# Altium schematic symbol library WE-OLEFD.SchLib: 24 symbols
Pins are listed as number, name and electrical type; pins without a type are passive.

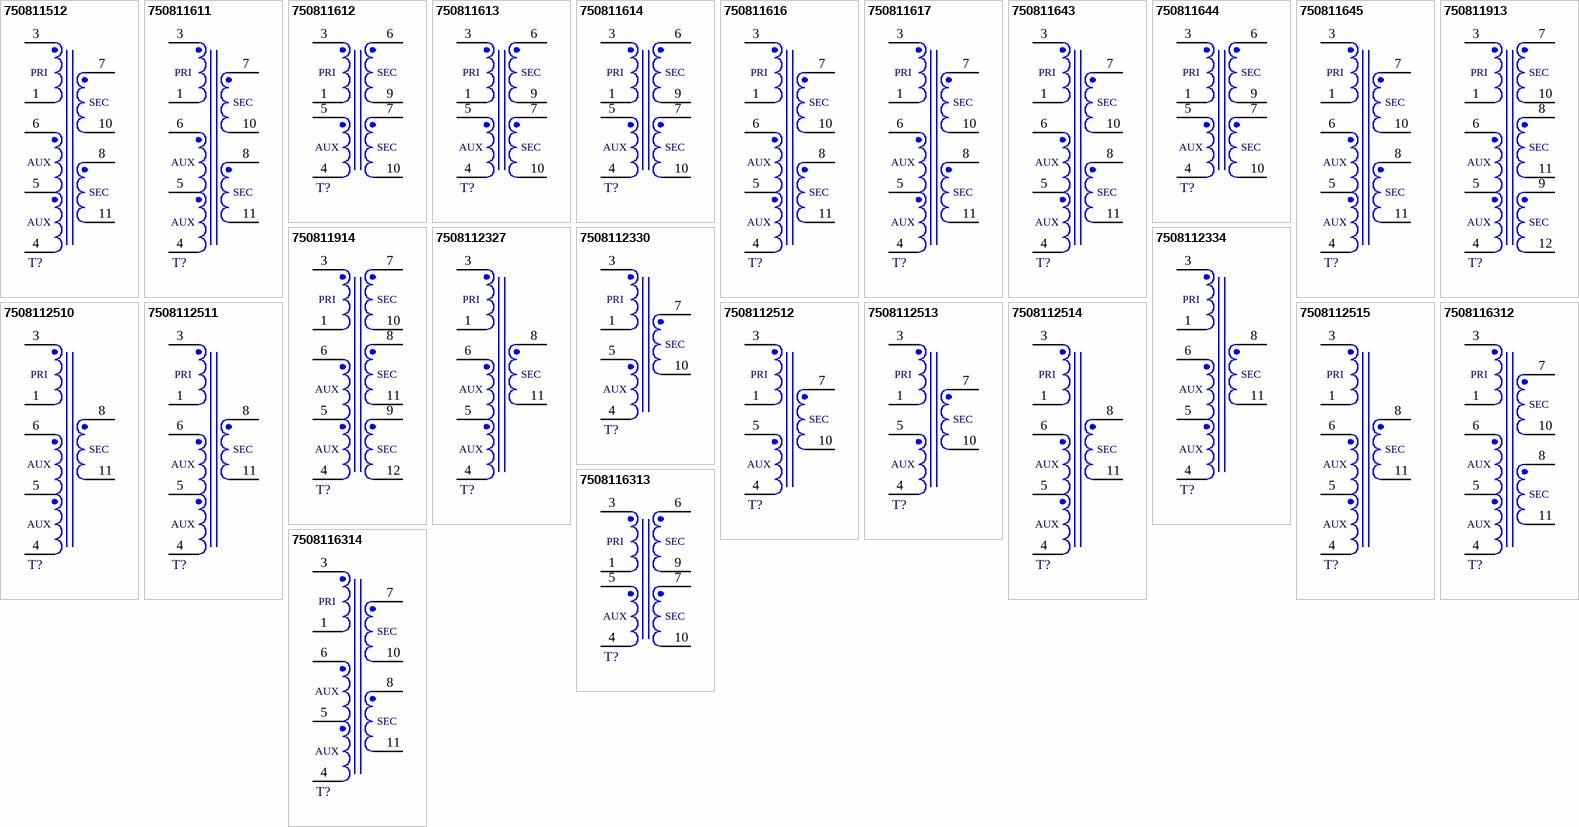
[diagram p0: symbols 750811512 to 7508116314]

## 750811512
designator T?, comment Ui = 85 - 265V, Uo1 = 5V / 1.575A, Uo2 = 5V / 1.575A  (value not drawn)
WE-OLEFD EFD-Style Offline Flyback Transformer, EFD25 THT, Ui = 85 - 265V, Uo1 = 5V / 1.575A, Uo2 = 5V / 1.575A; Manufacturer Part Number: 750811512; Manufacturer: Wurth Elektronik; Auxiliary Voltage: 20V; Inductance: 770uH; Input Voltage: 85 - 265VAC; Insulation Test Voltage: 4500VAC; Saturation Current: 2A; Switching Frequency: 68 - 120kHz; Turns Ratio: 20:1:1:2.75:1.25; Category: Offline Flyback Transformers; Match Code: WE-OLEFD; ComponentLink1Description: Website Link; ComponentLink1URL: https://www.we-online.com/redexpert/article/750811512?ad; ComponentLink2Description: Datasheet Link; ComponentLink2URL: https://www.we-online.com/redexpert/spec/750811512?ad; Mount: Through Hole; Operating Temperature Max: 125°C; Operating Temperature Min: -40°C; Packaging: Tray; Case/Size Code: EFD25 THT; Length: 33mm; Width: 26.3mm; Height: 14.81mm; Output Current 1: 1.575A; Output Current 2: 1.575A; Output Voltage 1: 5V; Output Voltage 2: 5V
footprint WE-OLEFD_EFD25 THT
pins: 1, 3, 4, 5, 6, 7, 8, 10, 11
text: PRI; SEC; AUX

## 750811611
designator T?, comment Ui = 85 - 265V, Uo1 = 5V / 2A, Uo2 = 5V / 2A  (value not drawn)
WE-OLEFD EFD-Style Offline Flyback Transformer, EFD20 SMT, Ui = 85 - 265V, Uo1 = 5V / 2A, Uo2 = 5V / 2A; Manufacturer Part Number: 750811611; Manufacturer: Wurth Elektronik; Auxiliary Voltage: 20V; Inductance: 800uH; Input Voltage: 85 - 265VAC; Insulation Test Voltage: 4500VAC; Saturation Current: 1.4A; Switching Frequency: 68 - 100kHz; Turns Ratio: 20:0.833:0.833:2.16:1; Category: Offline Flyback Transformers; Match Code: WE-OLEFD; ComponentLink1Description: Website Link; ComponentLink1URL: https://www.we-online.com/redexpert/article/750811611?ad; ComponentLink2Description: Datasheet Link; ComponentLink2URL: https://www.we-online.com/redexpert/spec/750811611?ad; Mount: Surface Mount; Operating Temperature Max: 125°C; Operating Temperature Min: -40°C; Packaging: Tape and Reel; Case/Size Code: EFD20 SMT; Length: 33.8mm; Width: 21.5mm; Height: 12mm; Output Current 1: 2A; Output Current 2: 2A; Output Voltage 1: 5V; Output Voltage 2: 5V
footprint WE-OLEFD_EFD20 SMT
pins: 1, 3, 4, 5, 6, 7, 8, 10, 11
text: PRI; SEC; AUX

## 750811612
designator T?, comment Ui = 85 - 265V, Uo1 = 5V / 1.3A, Uo2 = 5V / 1.3A  (value not drawn)
WE-OLEFD EFD-Style Offline Flyback Transformer, EFD20 THT, Ui = 85 - 265V, Uo1 = 5V / 1.3A, Uo2 = 5V / 1.3A; Manufacturer Part Number: 750811612; Manufacturer: Wurth Elektronik; Auxiliary Voltage: 20V; Inductance: 800uH; Input Voltage: 85 - 265VAC; Insulation Test Voltage: 4500VAC; Saturation Current: 1.4A; Switching Frequency: 68 - 110kHz; Turns Ratio: 5.26:0.26:0.26:1; Category: Offline Flyback Transformers; Match Code: WE-OLEFD; ComponentLink1Description: Website Link; ComponentLink1URL: https://www.we-online.com/redexpert/article/750811612?ad; ComponentLink2Description: Datasheet Link; ComponentLink2URL: https://www.we-online.com/redexpert/spec/750811612?ad; Mount: Through Hole; Operating Temperature Max: 125°C; Operating Temperature Min: -40°C; Packaging: Tray; Case/Size Code: EFD20 THT; Length: 29mm; Width: 21.5mm; Height: 12mm; Output Current 1: 1.3A; Output Current 2: 1.3A; Output Voltage 1: 5V; Output Voltage 2: 5V
footprint WE-OLEFD_EFD20 THT
pins: 1, 3, 4, 5, 6, 7, 9, 10
text: PRI; SEC; AUX

## 750811613
designator T?, comment Ui = 85 - 265V, Uo1 = 5V / 1.8A, Uo2 = 12V / 0.9A  (value not drawn)
WE-OLEFD EFD-Style Offline Flyback Transformer, EFD20 THT, Ui = 85 - 265V, Uo1 = 5V / 1.8A, Uo2 = 12V / 0.9A; Manufacturer Part Number: 750811613; Manufacturer: Wurth Elektronik; Auxiliary Voltage: 20V; Inductance: 800uH; Input Voltage: 85 - 265VAC; Insulation Test Voltage: 4500VAC; Saturation Current: 1.4A; Switching Frequency: 68 - 170kHz; Turns Ratio: 6.66:0.6:0.6:1; Category: Offline Flyback Transformers; Match Code: WE-OLEFD; ComponentLink1Description: Website Link; ComponentLink1URL: https://www.we-online.com/redexpert/article/750811613?ad; ComponentLink2Description: Datasheet Link; ComponentLink2URL: https://www.we-online.com/redexpert/spec/750811613?ad; Mount: Through Hole; Operating Temperature Max: 125°C; Operating Temperature Min: -40°C; Packaging: Tray; Case/Size Code: EFD20 THT; Length: 29mm; Width: 21.5mm; Height: 12mm; Output Current 1: 1.8A; Output Current 2: 0.9A; Output Voltage 1: 5V; Output Voltage 2: 12V
footprint WE-OLEFD_EFD20 THT
pins: 1, 3, 4, 5, 6, 7, 9, 10
text: PRI; SEC; AUX

## 750811614
designator T?, comment Ui = 85 - 265V, Uo1 = 5V / 1.2A, Uo2 = 24V / 0.62A  (value not drawn)
WE-OLEFD EFD-Style Offline Flyback Transformer, EFD20 THT, Ui = 85 - 265V, Uo1 = 5V / 1.2A, Uo2 = 24V / 0.62A; Manufacturer Part Number: 750811614; Manufacturer: Wurth Elektronik; Auxiliary Voltage: 20V; Inductance: 800uH; Input Voltage: 85 - 265VAC; Insulation Test Voltage: 4500VAC; Saturation Current: 1.4A; Switching Frequency: 68 - 220kHz; Turns Ratio: 8.33:1.16:1.16:1; Category: Offline Flyback Transformers; Match Code: WE-OLEFD; ComponentLink1Description: Website Link; ComponentLink1URL: https://www.we-online.com/redexpert/article/750811614?ad; ComponentLink2Description: Datasheet Link; ComponentLink2URL: https://www.we-online.com/redexpert/spec/750811614?ad; Mount: Through Hole; Operating Temperature Max: 125°C; Operating Temperature Min: -40°C; Packaging: Tray; Case/Size Code: EFD20 THT; Length: 29mm; Width: 21.5mm; Height: 12mm; Output Current 1: 1.2A; Output Current 2: 0.62A; Output Voltage 1: 5V; Output Voltage 2: 24V
footprint WE-OLEFD_EFD20 THT
pins: 1, 3, 4, 5, 6, 7, 9, 10
text: PRI; SEC; AUX

## 750811616
designator T?, comment Ui = 85 - 265V, Uo1 = 5V / 1.7A, Uo2 = 12V / 2A  (value not drawn)
WE-OLEFD EFD-Style Offline Flyback Transformer, EFD25 THT, Ui = 85 - 265V, Uo1 = 5V / 1.7A, Uo2 = 12V / 2A; Manufacturer Part Number: 750811616; Manufacturer: Wurth Elektronik; Auxiliary Voltage: 20V; Inductance: 468uH; Input Voltage: 85 - 265VAC; Insulation Test Voltage: 4500VAC; Saturation Current: 2.5A; Switching Frequency: 68 - 250kHz; Turns Ratio: 20:1:2.33:2.66:1.33; Category: Offline Flyback Transformers; Match Code: WE-OLEFD; ComponentLink1Description: Website Link; ComponentLink1URL: https://www.we-online.com/redexpert/article/750811616?ad; ComponentLink2Description: Datasheet Link; ComponentLink2URL: https://www.we-online.com/redexpert/spec/750811616?ad; Mount: Through Hole; Operating Temperature Max: 125°C; Operating Temperature Min: -40°C; Packaging: Tray; Case/Size Code: EFD25 THT; Length: 33mm; Width: 26.3mm; Height: 14.81mm; Output Current 1: 1.7A; Output Current 2: 2A; Output Voltage 1: 5V; Output Voltage 2: 12V
footprint WE-OLEFD_EFD25 THT
pins: 1, 3, 4, 5, 6, 7, 8, 10, 11
text: PRI; SEC; AUX

## 750811617
designator T?, comment Ui = 85 - 265V, Uo1 = 5V / 1.1A, Uo2 = 24V / 0.6A  (value not drawn)
WE-OLEFD EFD-Style Offline Flyback Transformer, EFD25 THT, Ui = 85 - 265V, Uo1 = 5V / 1.1A, Uo2 = 24V / 0.6A; Manufacturer Part Number: 750811617; Manufacturer: Wurth Elektronik; Auxiliary Voltage: 20V; Inductance: 793uH; Input Voltage: 85 - 265VAC; Insulation Test Voltage: 4500VAC; Saturation Current: 2A; Switching Frequency: 68 - 170kHz; Turns Ratio: 20:4.5:1:2.75:1.25; Category: Offline Flyback Transformers; Match Code: WE-OLEFD; ComponentLink1Description: Website Link; ComponentLink1URL: https://www.we-online.com/redexpert/article/750811617?ad; ComponentLink2Description: Datasheet Link; ComponentLink2URL: https://www.we-online.com/redexpert/spec/750811617?ad; Mount: Through Hole; Operating Temperature Max: 125°C; Operating Temperature Min: -40°C; Packaging: Tray; Case/Size Code: EFD25 THT; Length: 33mm; Width: 26.3mm; Height: 14.81mm; Output Current 1: 1.1A; Output Current 2: 0.6A; Output Voltage 1: 5V; Output Voltage 2: 24V
footprint WE-OLEFD_EFD25 THT
pins: 1, 3, 4, 5, 6, 7, 8, 10, 11
text: PRI; SEC; AUX

## 750811643
designator T?, comment Ui = 85 - 265V, Uo1 = 24V / 0.5A, Uo2 = 24V / 0.5A  (value not drawn)
WE-OLEFD EFD-Style Offline Flyback Transformer, EFD20 SMT, Ui = 85 - 265V, Uo1 = 24V / 0.5A, Uo2 = 24V / 0.5A; Manufacturer Part Number: 750811643; Manufacturer: Wurth Elektronik; Auxiliary Voltage: 20V; Inductance: 800uH; Input Voltage: 85 - 265VAC; Insulation Test Voltage: 4500VAC; Saturation Current: 1.4A; Switching Frequency: 68 - 120kHz; Turns Ratio: 20:3.6:3.6:2.2:1; Category: Offline Flyback Transformers; Match Code: WE-OLEFD; ComponentLink1Description: Website Link; ComponentLink1URL: https://www.we-online.com/redexpert/article/750811643?ad; ComponentLink2Description: Datasheet Link; ComponentLink2URL: https://www.we-online.com/redexpert/spec/750811643?ad; Mount: Surface Mount; Operating Temperature Max: 125°C; Operating Temperature Min: -40°C; Packaging: Tape and Reel; Case/Size Code: EFD20 SMT; Length: 33.8mm; Width: 21.5mm; Height: 12mm; Output Current 1: 0.5A; Output Current 2: 0.5A; Output Voltage 1: 24V; Output Voltage 2: 24V
footprint WE-OLEFD_EFD20 SMT
pins: 1, 3, 4, 5, 6, 7, 8, 10, 11
text: PRI; SEC; AUX

## 750811644
designator T?, comment Ui = 85 - 265V, Uo1 = 24V / 0.4A, Uo2 = 24V / 0.4A  (value not drawn)
WE-OLEFD EFD-Style Offline Flyback Transformer, EFD20 THT, Ui = 85 - 265V, Uo1 = 24V / 0.4A, Uo2 = 24V / 0.4A; Manufacturer Part Number: 750811644; Manufacturer: Wurth Elektronik; Auxiliary Voltage: 20V; Inductance: 800uH; Input Voltage: 85 - 265VAC; Insulation Test Voltage: 4500VAC; Saturation Current: 1.4A; Switching Frequency: 68 - 150kHz; Turns Ratio: 11.11:1.88:1; Category: Offline Flyback Transformers; Match Code: WE-OLEFD; ComponentLink1Description: Website Link; ComponentLink1URL: https://www.we-online.com/redexpert/article/750811644?ad; ComponentLink2Description: Datasheet Link; ComponentLink2URL: https://www.we-online.com/redexpert/spec/750811644?ad; Mount: Through Hole; Operating Temperature Max: 125°C; Operating Temperature Min: -40°C; Packaging: Tray; Case/Size Code: EFD20 THT; Length: 29mm; Width: 21.5mm; Height: 12.5mm; Output Current 1: 0.4A; Output Current 2: 0.4A; Output Voltage 1: 24V; Output Voltage 2: 24V
footprint WE-OLEFD_EFD20 THT
pins: 1, 3, 4, 5, 6, 7, 9, 10
text: PRI; SEC; AUX

## 750811645
designator T?, comment Ui = 85 - 265V, Uo1 = 24V / 0.71A, Uo2 = 24V / 0.71A  (value not drawn)
WE-OLEFD EFD-Style Offline Flyback Transformer, EFD25 THT, Ui = 85 - 265V, Uo1 = 24V / 0.71A, Uo2 = 24V / 0.71A; Manufacturer Part Number: 750811645; Manufacturer: Wurth Elektronik; Auxiliary Voltage: 20V; Inductance: 470uH; Input Voltage: 85 - 265VAC; Insulation Test Voltage: 4500VAC; Saturation Current: 2A; Switching Frequency: 68 - 100kHz; Turns Ratio: 16.66:4:4:2.33:1; Category: Offline Flyback Transformers; Match Code: WE-OLEFD; ComponentLink1Description: Website Link; ComponentLink1URL: https://www.we-online.com/redexpert/article/750811645?ad; ComponentLink2Description: Datasheet Link; ComponentLink2URL: https://www.we-online.com/redexpert/spec/750811645?ad; Mount: Through Hole; Operating Temperature Max: 125°C; Operating Temperature Min: -40°C; Packaging: Tray; Case/Size Code: EFD25 THT; Length: 33mm; Width: 26.3mm; Height: 14.81mm; Output Current 1: 0.71A; Output Current 2: 0.71A; Output Voltage 1: 24V; Output Voltage 2: 24V
footprint WE-OLEFD_EFD25 THT
pins: 1, 3, 4, 5, 6, 7, 8, 10, 11
text: PRI; SEC; AUX

## 750811913
designator T?, comment Ui = 85 - 265V, Uo1 = 5V / 1.25A, Uo2 = 5V / 1.25A, Uo3 = 7V / 1.1A  (value not drawn)
WE-OLEFD EFD-Style Offline Flyback Transformer, EFD20 SMT, Ui = 85 - 265V, Uo1 = 5V / 1.25A, Uo2 = 5V / 1.25A, Uo3 = 7V / 1.1A; Manufacturer Part Number: 750811913; Manufacturer: Wurth Elektronik; Auxiliary Voltage: 20V; Inductance: 800uH; Input Voltage: 85 - 265VAC; Insulation Test Voltage: 4500VAC; Saturation Current: 1.4A; Switching Frequency: 68 - 130kHz; Turns Ratio: 16.66:0.833:0.833:1.166:2.166:1; Category: Offline Flyback Transformers; Match Code: WE-OLEFD; ComponentLink1Description: Website Link; ComponentLink1URL: https://www.we-online.com/redexpert/article/750811913?ad; ComponentLink2Description: Datasheet Link; ComponentLink2URL: https://www.we-online.com/redexpert/spec/750811913?ad; Mount: Surface Mount; Operating Temperature Max: 125°C; Operating Temperature Min: -40°C; Packaging: Tape and Reel; Case/Size Code: EFD20 SMT; Length: 33.8mm; Width: 21.5mm; Height: 12mm; Output Current 1: 1.25A; Output Current 2: 1.25A; Output Current 3: 1.1A; Output Voltage 1: 5V; Output Voltage 2: 5V; Output Voltage 3: 7V
footprint WE-OLEFD_EFD20 SMT
pins: 1, 3, 4, 5, 6, 7, 8, 9, 10, 11, 12
text: PRI; SEC; AUX

## 750811914
designator T?, comment Ui = 85 - 265V, Uo1 = 5V / 1.3A, Uo2 = 5V / 1.3A, Uo3 = 19V / 0.5A  (value not drawn)
WE-OLEFD EFD-Style Offline Flyback Transformer, EFD20 SMT, Ui = 85 - 265V, Uo1 = 5V / 1.3A, Uo2 = 5V / 1.3A, Uo3 = 19V / 0.5A; Manufacturer Part Number: 750811914; Manufacturer: Wurth Elektronik; Auxiliary Voltage: 20V; Inductance: 800uH; Input Voltage: 85 - 265VAC; Insulation Test Voltage: 4500VAC; Saturation Current: 1.4A; Switching Frequency: 68 - 140kHz; Turns Ratio: 20:0.8:0.8:2.8:2.2:1; Category: Offline Flyback Transformers; Match Code: WE-OLEFD; ComponentLink1Description: Website Link; ComponentLink1URL: https://www.we-online.com/redexpert/article/750811914?ad; ComponentLink2Description: Datasheet Link; ComponentLink2URL: https://www.we-online.com/redexpert/spec/750811914?ad; Mount: Surface Mount; Operating Temperature Max: 125°C; Operating Temperature Min: -40°C; Packaging: Tape and Reel; Case/Size Code: EFD20 SMT; Length: 33.8mm; Width: 21.5mm; Height: 12mm; Output Current 1: 1.3A; Output Current 2: 1.3A; Output Current 3: 0.5A; Output Voltage 1: 5V; Output Voltage 2: 5V; Output Voltage 3: 19V
footprint WE-OLEFD_EFD20 SMT
pins: 1, 3, 4, 5, 6, 7, 8, 9, 10, 11, 12
text: PRI; SEC; AUX

## 7508112327
designator T?, comment Ui = 85 - 265V, Uo1 = 16V / 1.3A  (value not drawn)
WE-OLEFD EFD-Style Offline Flyback Transformer, EFD20 SMT, Ui = 85 - 265V, Uo1 = 16V / 1.3A; Manufacturer Part Number: 7508112327; Manufacturer: Wurth Elektronik; Auxiliary Voltage: 20V; Inductance: 800uH; Input Voltage: 85 - 265VAC; Insulation Test Voltage: 4500VAC; Saturation Current: 1.4A; Switching Frequency: 68 - 130kHz; Turns Ratio: 20:2.4:2.2:1; Category: Offline Flyback Transformers; Match Code: WE-OLEFD; ComponentLink1Description: Website Link; ComponentLink1URL: https://www.we-online.com/redexpert/article/7508112327?ad; ComponentLink2Description: Datasheet Link; ComponentLink2URL: https://www.we-online.com/redexpert/spec/7508112327?ad; Mount: Surface Mount; Operating Temperature Max: 125°C; Operating Temperature Min: -40°C; Packaging: Tape and Reel; Case/Size Code: EFD20 SMT; Length: 33.8mm; Width: 21.5mm; Height: 12mm; Output Current 1: 1.3A; Output Voltage 1: 16V
footprint WE-OLEFD_EFD20 SMT
pins: 1, 3, 4, 5, 6, 8, 11
text: PRI; SEC; AUX

## 7508112330
designator T?, comment Ui = 85 - 265V, Uo1 = 16V / 1.15A  (value not drawn)
WE-OLEFD EFD-Style Offline Flyback Transformer, EFD20 THT, Ui = 85 - 265V, Uo1 = 16V / 1.15A; Manufacturer Part Number: 7508112330; Manufacturer: Wurth Elektronik; Auxiliary Voltage: 20V; Inductance: 800uH; Input Voltage: 85 - 265VAC; Insulation Test Voltage: 4500VAC; Saturation Current: 1.4A; Switching Frequency: 68 - 130kHz; Turns Ratio: 8.333:1:1.25; Category: Offline Flyback Transformers; Match Code: WE-OLEFD; ComponentLink1Description: Website Link; ComponentLink1URL: https://www.we-online.com/redexpert/article/7508112330?ad; ComponentLink2Description: Datasheet Link; ComponentLink2URL: https://www.we-online.com/redexpert/spec/7508112330?ad; Mount: Through Hole; Operating Temperature Max: 125°C; Operating Temperature Min: -40°C; Packaging: Tray; Case/Size Code: EFD20 THT; Length: 29mm; Width: 21.5mm; Height: 12mm; Output Current 1: 1.15A; Output Voltage 1: 16V
footprint WE-OLEFD_EFD20 THT
pins: 1, 3, 4, 5, 7, 10
text: PRI; SEC; AUX

## 7508112334
designator T?, comment Ui = 85 - 265V, Uo1 = 16V / 1.64A  (value not drawn)
WE-OLEFD EFD-Style Offline Flyback Transformer, EFD25 THT, Ui = 85 - 265V, Uo1 = 16V / 1.64A; Manufacturer Part Number: 7508112334; Manufacturer: Wurth Elektronik; Auxiliary Voltage: 20V; Inductance: 414uH; Input Voltage: 85 - 265VAC; Insulation Test Voltage: 4500VAC; Saturation Current: 2.2A; Switching Frequency: 68 - 110kHz; Turns Ratio: 16:2.33:2:1; Category: Offline Flyback Transformers; Match Code: WE-OLEFD; ComponentLink1Description: Website Link; ComponentLink1URL: https://www.we-online.com/redexpert/article/7508112334?ad; ComponentLink2Description: Datasheet Link; ComponentLink2URL: https://www.we-online.com/redexpert/spec/7508112334?ad; Mount: Through Hole; Operating Temperature Max: 125°C; Operating Temperature Min: -40°C; Packaging: Tray; Case/Size Code: EFD25 THT; Length: 33mm; Width: 26.3mm; Height: 14.81mm; Output Current 1: 1.64A; Output Voltage 1: 16V
footprint WE-OLEFD_EFD25 THT
pins: 1, 3, 4, 5, 6, 8, 11
text: PRI; SEC; AUX

## 7508112510
designator T?, comment Ui = 85 - 265V, Uo1 = 32V / 0.75A  (value not drawn)
WE-OLEFD EFD-Style Offline Flyback Transformer, EFD20 SMT, Ui = 85 - 265V, Uo1 = 32V / 0.75A; Manufacturer Part Number: 7508112510; Manufacturer: Wurth Elektronik; Auxiliary Voltage: 20V; Inductance: 800uH; Input Voltage: 85 - 265VAC; Insulation Test Voltage: 4500VAC; Saturation Current: 1.4A; Switching Frequency: 68 - 120kHz; Turns Ratio: 20:4.8:2.2:1; Category: Offline Flyback Transformers; Match Code: WE-OLEFD; ComponentLink1Description: Website Link; ComponentLink1URL: https://www.we-online.com/redexpert/article/7508112510?ad; ComponentLink2Description: Datasheet Link; ComponentLink2URL: https://www.we-online.com/redexpert/spec/7508112510?ad; Mount: Surface Mount; Operating Temperature Max: 125°C; Operating Temperature Min: -40°C; Packaging: Tape and Reel; Case/Size Code: EFD20 SMT; Length: 33.8mm; Width: 21.5mm; Height: 12.5mm; Output Current 1: 0.75A; Output Voltage 1: 32V
footprint WE-OLEFD_EFD20 SMT
pins: 1, 3, 4, 5, 6, 8, 11
text: PRI; SEC; AUX

## 7508112511
designator T?, comment Ui = 85 - 265V, Uo1 = 40V / 0.6A  (value not drawn)
WE-OLEFD EFD-Style Offline Flyback Transformer, EFD20 SMT, Ui = 85 - 265V, Uo1 = 40V / 0.6A; Manufacturer Part Number: 7508112511; Manufacturer: Wurth Elektronik; Auxiliary Voltage: 20V; Inductance: 800uH; Input Voltage: 85 - 265VAC; Insulation Test Voltage: 4500VAC; Saturation Current: 1.4A; Switching Frequency: 68 - 120kHz; Turns Ratio: 20:6:2.2:1; Category: Offline Flyback Transformers; Match Code: WE-OLEFD; ComponentLink1Description: Website Link; ComponentLink1URL: https://www.we-online.com/redexpert/article/7508112511?ad; ComponentLink2Description: Datasheet Link; ComponentLink2URL: https://www.we-online.com/redexpert/spec/7508112511?ad; Mount: Surface Mount; Operating Temperature Max: 125°C; Operating Temperature Min: -40°C; Packaging: Tape and Reel; Case/Size Code: EFD20 SMT; Length: 33.8mm; Width: 21.5mm; Height: 12mm; Output Current 1: 0.6A; Output Voltage 1: 40V
footprint WE-OLEFD_EFD20 SMT
pins: 1, 3, 4, 5, 6, 8, 11
text: PRI; SEC; AUX

## 7508112512
designator T?, comment Ui = 85 - 265V, Uo1 = 32V / 0.75A  (value not drawn)
WE-OLEFD EFD-Style Offline Flyback Transformer, EFD20 THT, Ui = 85 - 265V, Uo1 = 32V / 0.75A; Manufacturer Part Number: 7508112512; Manufacturer: Wurth Elektronik; Auxiliary Voltage: 20V; Inductance: 800uH; Input Voltage: 85 - 265VAC; Insulation Test Voltage: 4500VAC; Saturation Current: 1.4A; Switching Frequency: 68 - 170kHz; Turns Ratio: 11.11:1.55:1; Category: Offline Flyback Transformers; Match Code: WE-OLEFD; ComponentLink1Description: Website Link; ComponentLink1URL: https://www.we-online.com/redexpert/article/7508112512?ad; ComponentLink2Description: Datasheet Link; ComponentLink2URL: https://www.we-online.com/redexpert/spec/7508112512?ad; Mount: Through Hole; Operating Temperature Max: 125°C; Operating Temperature Min: -40°C; Packaging: Tray; Case/Size Code: EFD20 THT; Length: 29mm; Width: 21.5mm; Height: 12mm; Output Current 1: 0.75A; Output Voltage 1: 32V
footprint WE-OLEFD_EFD20 THT
pins: 1, 3, 4, 5, 7, 10
text: PRI; SEC; AUX

## 7508112513
designator T?, comment Ui = 85 - 265V, Uo1 = 40V / 0.58A  (value not drawn)
WE-OLEFD EFD-Style Offline Flyback Transformer, EFD20 THT, Ui = 85 - 265V, Uo1 = 40V / 0.58A; Manufacturer Part Number: 7508112513; Manufacturer: Wurth Elektronik; Auxiliary Voltage: 20V; Inductance: 800uH; Input Voltage: 85 - 265VAC; Insulation Test Voltage: 4500VAC; Saturation Current: 1.4A; Switching Frequency: 68 - 180kHz; Turns Ratio: 6.66:0.8:1; Category: Offline Flyback Transformers; Match Code: WE-OLEFD; ComponentLink1Description: Website Link; ComponentLink1URL: https://www.we-online.com/redexpert/article/7508112513?ad; ComponentLink2Description: Datasheet Link; ComponentLink2URL: https://www.we-online.com/redexpert/spec/7508112513?ad; Mount: Through Hole; Operating Temperature Max: 125°C; Operating Temperature Min: -40°C; Packaging: Tray; Case/Size Code: EFD20 THT; Length: 29mm; Width: 21.5mm; Height: 12mm; Output Current 1: 0.58A; Output Voltage 1: 40V
footprint WE-OLEFD_EFD20 THT
pins: 1, 3, 4, 5, 7, 10
text: PRI; SEC; AUX

## 7508112514
designator T?, comment Ui = 85 - 265V, Uo1 = 32V / 1A  (value not drawn)
WE-OLEFD EFD-Style Offline Flyback Transformer, EFD25 THT, Ui = 85 - 265V, Uo1 = 32V / 1A; Manufacturer Part Number: 7508112514; Manufacturer: Wurth Elektronik; Auxiliary Voltage: 20V; Inductance: 460uH; Input Voltage: 85 - 265VAC; Insulation Test Voltage: 4500VAC; Saturation Current: 1.9A; Switching Frequency: 68 - 110kHz; Turns Ratio: 16:4.66:2:1; Category: Offline Flyback Transformers; Match Code: WE-OLEFD; ComponentLink1Description: Website Link; ComponentLink1URL: https://www.we-online.com/redexpert/article/7508112514?ad; ComponentLink2Description: Datasheet Link; ComponentLink2URL: https://www.we-online.com/redexpert/spec/7508112514?ad; Mount: Through Hole; Operating Temperature Max: 125°C; Operating Temperature Min: -40°C; Packaging: Tray; Case/Size Code: EFD25 THT; Length: 33mm; Width: 26.3mm; Height: 14.81mm; Output Current 1: 1A; Output Voltage 1: 32V
footprint WE-OLEFD_EFD25 THT
pins: 1, 3, 4, 5, 6, 8, 11
text: PRI; SEC; AUX

## 7508112515
designator T?, comment Ui = 85 - 265V, Uo1 = 40V / 0.8A  (value not drawn)
WE-OLEFD EFD-Style Offline Flyback Transformer, EFD25 THT, Ui = 85 - 265V, Uo1 = 40V / 0.8A; Manufacturer Part Number: 7508112515; Manufacturer: Wurth Elektronik; Auxiliary Voltage: 20V; Inductance: 500uH; Input Voltage: 85 - 265VAC; Insulation Test Voltage: 4500VAC; Saturation Current: 1.9A; Switching Frequency: 68 - 105kHz; Turns Ratio: 16.66:6.33:2.33:1; Category: Offline Flyback Transformers; Match Code: WE-OLEFD; ComponentLink1Description: Website Link; ComponentLink1URL: https://www.we-online.com/redexpert/article/7508112515?ad; ComponentLink2Description: Datasheet Link; ComponentLink2URL: https://www.we-online.com/redexpert/spec/7508112515?ad; Mount: Through Hole; Operating Temperature Max: 125°C; Operating Temperature Min: -40°C; Packaging: Tray; Case/Size Code: EFD25 THT; Length: 33mm; Width: 26.3mm; Height: 14.81mm; Output Current 1: 0.8A; Output Voltage 1: 40V
footprint WE-OLEFD_EFD25 THT
pins: 1, 3, 4, 5, 6, 8, 11
text: PRI; SEC; AUX

## 7508116312
designator T?, comment Ui = 85 - 265V, Uo1 = 12V / 1A, Uo2 = 12V / 1A  (value not drawn)
WE-OLEFD EFD-Style Offline Flyback Transformer, EFD20 SMT, Ui = 85 - 265V, Uo1 = 12V / 1A, Uo2 = 12V / 1A; Manufacturer Part Number: 7508116312; Manufacturer: Wurth Elektronik; Auxiliary Voltage: 20V; Inductance: 800uH; Input Voltage: 85 - 265VAC; Insulation Test Voltage: 4500VAC; Saturation Current: 1.4A; Switching Frequency: 68 - 120kHz; Turns Ratio: 20:1.8:1.8:2.2:1; Category: Offline Flyback Transformers; Match Code: WE-OLEFD; ComponentLink1Description: Website Link; ComponentLink1URL: https://www.we-online.com/redexpert/article/7508116312?ad; ComponentLink2Description: Datasheet Link; ComponentLink2URL: https://www.we-online.com/redexpert/spec/7508116312?ad; Mount: Surface Mount; Operating Temperature Max: 125°C; Operating Temperature Min: -40°C; Packaging: Tape and Reel; Case/Size Code: EFD20 SMT; Length: 33.8mm; Width: 21.5mm; Height: 12mm; Output Current 1: 1A; Output Current 2: 1A; Output Voltage 1: 12V; Output Voltage 2: 12V
footprint WE-OLEFD_EFD20 SMT
pins: 1, 3, 4, 5, 6, 7, 8, 10, 11
text: PRI; SEC; AUX

## 7508116313
designator T?, comment Ui = 85 - 265V, Uo1 = 12V / 0.85A, Uo2 = 12V / 0.85A  (value not drawn)
WE-OLEFD EFD-Style Offline Flyback Transformer, EFD20 THT, Ui = 85 - 265V, Uo1 = 12V / 0.85A, Uo2 = 12V / 0.85A; Manufacturer Part Number: 7508116313; Manufacturer: Wurth Elektronik; Auxiliary Voltage: 20V; Inductance: 800uH; Input Voltage: 85 - 265VAC; Insulation Test Voltage: 4500VAC; Saturation Current: 1.4A; Switching Frequency: 68 - 110kHz; Turns Ratio: 9.09:0.27:1.18:1; Category: Offline Flyback Transformers; Match Code: WE-OLEFD; ComponentLink1Description: Website Link; ComponentLink1URL: https://www.we-online.com/redexpert/article/7508116313?ad; ComponentLink2Description: Datasheet Link; ComponentLink2URL: https://www.we-online.com/redexpert/spec/7508116313?ad; Mount: Through Hole; Operating Temperature Max: 125°C; Operating Temperature Min: -40°C; Packaging: Tray; Case/Size Code: EFD20 THT; Length: 29mm; Width: 21.5mm; Height: 12mm; Output Current 1: 0.85A; Output Current 2: 0.85A; Output Voltage 1: 12V; Output Voltage 2: 12V
footprint WE-OLEFD_EFD20 THT
pins: 1, 3, 4, 5, 6, 7, 9, 10
text: PRI; SEC; AUX

## 7508116314
designator T?, comment Ui = 85 - 265V, Uo1 = 12V / 1.3A, Uo2 = 12V / 1.3A  (value not drawn)
WE-OLEFD EFD-Style Offline Flyback Transformer, EFD25 THT, Ui = 85 - 265V, Uo1 = 12V / 1.3A, Uo2 = 12V / 1.3A; Manufacturer Part Number: 7508116314; Manufacturer: Wurth Elektronik; Auxiliary Voltage: 20V; Inductance: 450uH; Input Voltage: 85 - 265VAC; Insulation Test Voltage: 4500VAC; Saturation Current: 2.1A; Switching Frequency: 68 - 100kHz; Turns Ratio: 16.66:2:2.33:1; Category: Offline Flyback Transformers; Match Code: WE-OLEFD; ComponentLink1Description: Website Link; ComponentLink1URL: https://www.we-online.com/redexpert/article/7508116314?ad; ComponentLink2Description: Datasheet Link; ComponentLink2URL: https://www.we-online.com/redexpert/spec/7508116314?ad; Mount: Through Hole; Operating Temperature Max: 125°C; Operating Temperature Min: -40°C; Packaging: Tray; Case/Size Code: EFD25 THT; Length: 33mm; Width: 26.3mm; Height: 14.81mm; Output Current 1: 1.3A; Output Current 2: 1.3A; Output Voltage 1: 12V; Output Voltage 2: 12V
footprint WE-OLEFD_EFD25 THT
pins: 1, 3, 4, 5, 6, 7, 8, 10, 11
text: PRI; SEC; AUX